# Altium schematic symbol library vitech_lib.SchLib: 33 symbols
Pins are listed as number, name and electrical type; pins without a type are passive.

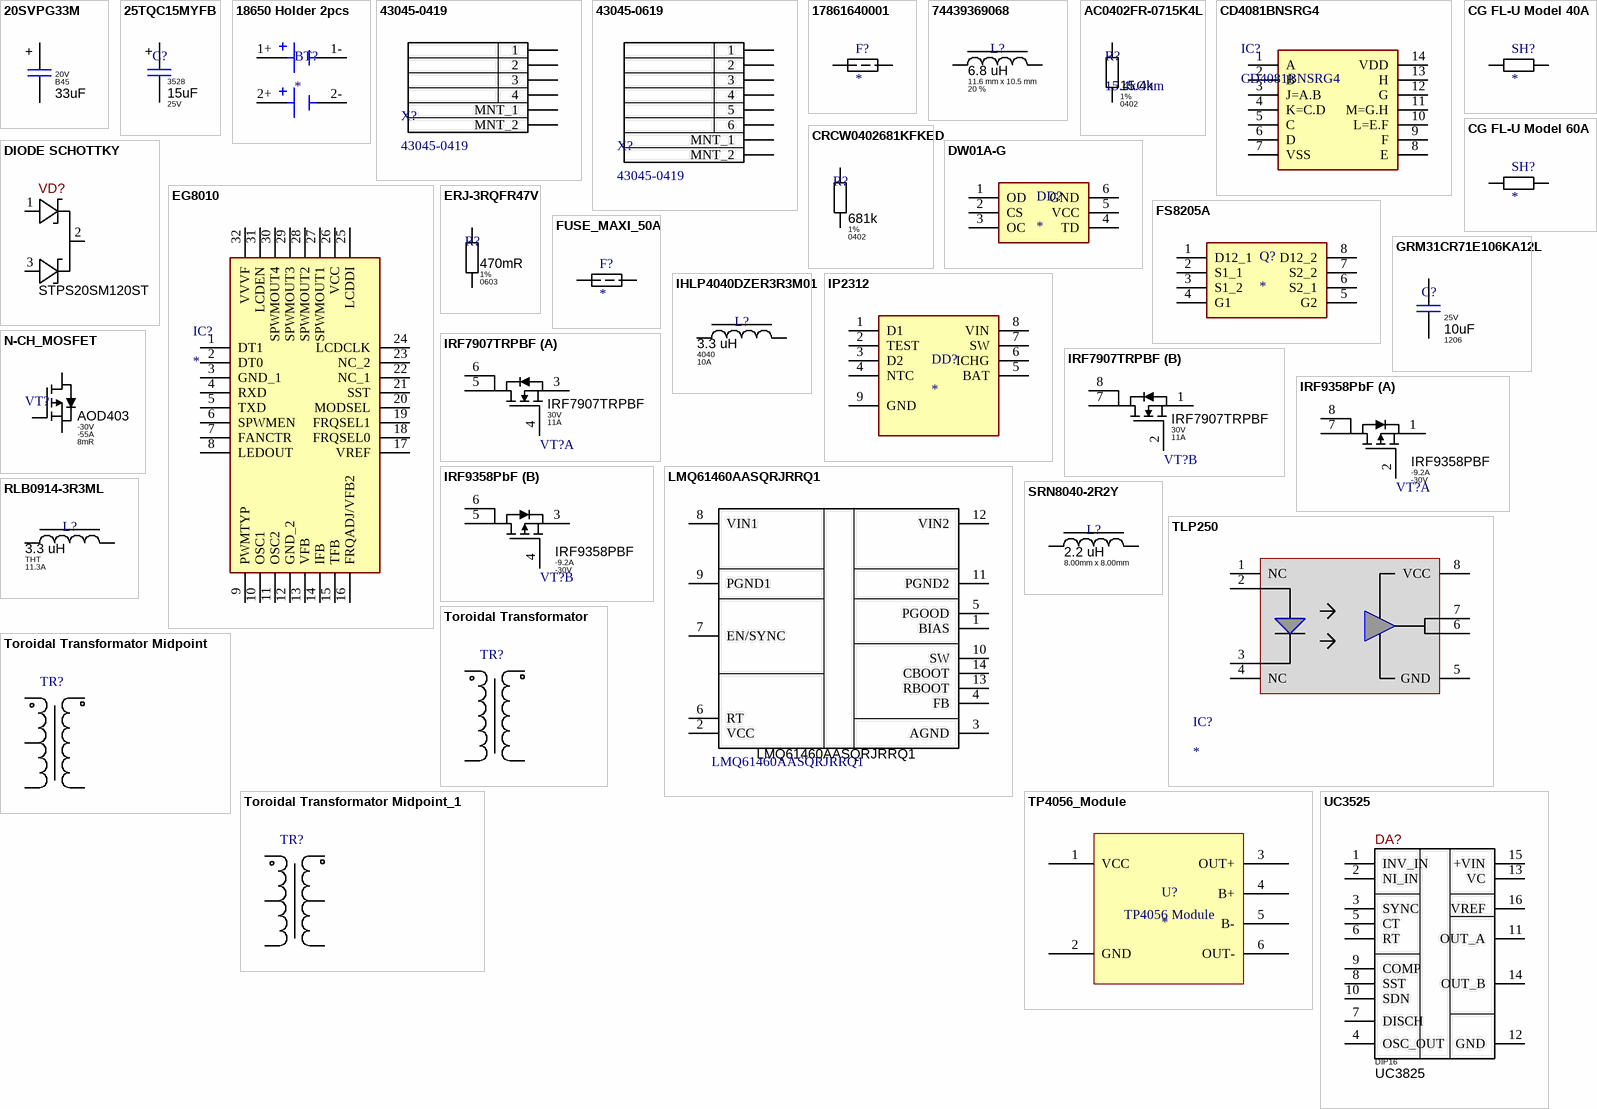
[diagram p0: symbols 20SVPG33M to UC3525]

## 20SVPG33M
designator C?, comment Package: B45  Voltage: 20V  (hidden comment: 33uF)
Aluminium Organic Polymer Capacitors 20volt 33uF 27mOhms 5x4.5mm OS-CON; Part Number: 20SVPG33M; Manufacturer: Panasonic; Tolerance: 20 %; ComponentLink1Description: Datasheet; ComponentLink1URL: https://industrial.panasonic.com/cdbs/www-data/pdf/AAB8000/AAB8000C175.pdf; Component Type: SMD; Value: 33uF
footprint 20SVPG33M
pins: 1, 2
text: +

## 25TQC15MYFB
designator C?, comment Voltage: 25V  Package: 3528  (hidden comment: 15uF)
Cap Tant Solid 15uF 25V B2 CASE 20% (3.5 X 2.8 X 1.9mm) SMD 3528 0.1 Ohm 105 C Embossed T/R; Manufacturer: Panasonic; Part Number: 25TQC15MYFB; ESR: 0.1Ohm; ComponentLink1Description: Datasheet; ComponentLink1URL: https://industrial.panasonic.com/cdbs/www-data/pdf/AAA8000/AAA8000C62.pdf; Tolerance: ±20%; Component Type: SMD; Value: 15uF
footprint 25TQC15MYFB
pins: 1, 2
text: +

## 18650 Holder 2pcs
designator BT?
Battery Holder (Open) 18650 2 Cell PC Pin; MP: BK-18650-PC4; Price: None; Value: *; Package: None; Availability: Unavailable
footprint BAT_BK-18650-PC4 (Footprint not found)
pins: 1+, 1-, 2+, 2-

## 43045-0419
designator X?
Micro-Fit 3.0 Vertical Header, 3.00mm Pitch, Dual Row, 4 Circuits, with Solder Tab, Gold, Glow-Wire Capable, Black, Tape and Reel; Manufacturer: Molex; ComponentLink1Description: Datasheet; ComponentLink1URL: https://www.molex.com/en-us/products/part-detail/430450419?display=pdf; Part Number: 43045-0419; Component Type: SMD
footprint 43045-0419
pins: 1, 2, 3, 4, 5 MNT_1, 6 MNT_2

## 43045-0619
designator X?, comment 43045-0419
Micro-Fit 3.0 Vertical Header, 3.00mm Pitch, Dual Row, 6 Circuits, with Solder Tab, Gold, Glow-Wire Capable, Black, Tape and Reel; Manufacturer: Molex; Part Number: 43045-0619; ComponentLink1Description: Datasheet; ComponentLink1URL: https://www.molex.com/en-us/products/part-detail/430450619?display=pdf; Component Type: SMD
footprint 43045-0619
pins: 1, 2, 3, 4, 5, 6, 7 MNT_1, 8 MNT_2

## 17861640001
designator F?
Fuse; Manufacturer_Name: LITTELFUSE; Manufacturer_Part_Number: 17861640001; Datasheet Link: https://www.littelfuse.com/media?resourcetype=2d-prints&itemid=dcb90cf3-0771-4ccd-8726-26101cf00574&filename=ol-178.6164.0000(c); Height: 17.5mm
footprint 17861640001
pins: 1, 2

## 74439369068
designator L?, comment value 6.8 uH  Tolerance: 20 %  Package: 11.6 mm x 10.5 mm  (hidden comment: 6.8uH)
Power Inductors - SMD WE-XHMI SMD 1090 6.8uH 10.5A 7.6mOhms AEC-Q200; Manufacturer: Wurth Elektronik; Part Number: 74439369068; Saturation Current: 21.5 A; Component Type: SMD
footprint 74439369068
pins: 1, 2

## AC0402FR-0715K4L
designator R?, comment 15.4kOhm  value 15.4k  Package: 0402  Tolerance: 1%
RES 15.4kΩ ±1% 0.063W 0402; Manufacturer: YAGEO; Part Number: AC0402FR-0715K4L; Voltage: 50V; Component Type: SMD
footprint AC0402FR-0715K4L (Footprint not found)
pins: 1, 2

## CD4081BNSRG4
designator IC?
Integrated Circuit; Manufacturer_Name: Texas Instruments; Datasheet Link: https://www.ti.com/lit/gpn/cd4081b; Height: 2mm; Manufacturer_Part_Number: CD4081BNSRG4; Mouser Part Number: 595-CD4081BNSRG4; Mouser Price/Stock: https://www.mouser.com/Search/Refine.aspx?Keyword=595-CD4081BNSRG4; Component Type: SMD
footprint SOIC127P780X200-14N
pins: 1 A, 2 B, 3 J=A.B, 4 K=C.D, 5 C, 6 D, 7 VSS, 8 E, 9 F, 10 L=E.F, 11 M=G.H, 12 G, 13 H, 14 VDD

## CG FL-U Model 40A
designator SH?
link: http://www.cnchog.com/products/40a-220a-ID167.html
footprint CG FL-U Model 40A (Footprint not found)
pins: 1 A, 2 B

## CG FL-U Model 60A
designator SH?
link: http://www.cnchog.com/products/40a-220a-ID167.html
footprint CG FL-U Model 60A (Footprint not found)
pins: 1, 2

## CRCW0402681KFKED
designator R?, comment value 681k  Package: 0402  Tolerance: 1%  (hidden comment: 681kOhm)
RES SMD 681K OHM 1% 1/16W 0402; Part Number: CRCW0402681KFKED; Manufacturer: Vishay Dale; Voltage: 50V; Datasheet: https://www.vishay.com/docs/20035/dcrcwe3.pdf; Component Type: SMD
footprint CRCW0402681KFKED
pins: 1, 2

## DIODE SCHOTTKY
designator VD?  Part Number: STPS20SM120ST  (hidden comment: *)
Diode Schottky Array 1 Pair Common Cathode, 120V 20A, TO-220; Manufacturer: STMicroelectronics; Marking: STPS20SM120; Component Status: Released; Standard Lead Time: 11 Weeks; Vf: 0.75V @ 10A; Replacement: NONE; Voltage: 120V; Part Type: Schottky; Component Type: PTH; Package: TO-220AB; Current: 20A; Temperature Range: -65°C ~ 150°C; ComponentLink1URL: https://www.st.com/resource/en/datasheet/stps20sm120s.pdf; Supplier 1: Digi-Key; Supplier Part Number 1: 497-15563-5-ND; Price: NONE; ComponentLink1Description: Datasheet
footprint TO220(H)
footprint TO220
footprint TO247 (3-Lead Plastic TO-247)
footprint TO247(H) (3-Lead Plastic TO-247)
pins: 1 Anode 1, 2 Cathode, 3 Anode 2

## DW01A-G
designator DD?
One Cell Lithium-ion/Polymer Battery Protection IC; Component Type: SMD
footprint DW01A-G
pins: 1 OD, 2 CS, 3 OC, 4 TD, 5 VCC, 6 GND

## EG8010
designator IC?
Integrated Circuit; Manufacturer_Name: Glenair; Manufacturer_Part_Number: EG8010; Datasheet Link: https://datasheetspdf.com/pdf-file/729849/EGMicro/EG8010/1; Height: 1.6mm
footprint QFP80P900X900X160-32N
pins: 1 DT1, 2 DT0, 3 GND_1, 4 RXD, 5 TXD, 6 SPWMEN, 7 FANCTR, 8 LEDOUT, 9 PWMTYP, 10 OSC1, 11 OSC2, 12 GND_2, 13 VFB, 14 IFB, 15 TFB, 16 FRQADJ/VFB2, 17 VREF, 18 FRQSEL0, 19 FRQSEL1, 20 MODSEL, 21 SST, 22 NC_1, 23 NC_2, 24 LCDCLK, 25 LCDDI, 26 VCC, 27 SPWMOUT1, 28 SPWMOUT2, 29 SPWMOUT3, 30 SPWMOUT4, 31 LCDEN, 32 VVVF

## ERJ-3RQFR47V
designator R?, comment value 470mR  Package: 0603  Tolerance: 1%  (hidden comment: 0.47R)
RES 0.47 OHM 1% 1/10W 0603; Manufacturer: Panasonic Electronic Components; Part Number: ERJ-3RQFR47V; Voltage: 50V; Component Type: SMD
footprint ERJ-3RQFR47V (Footprint not found)
pins: 1, 2

## FS8205A
designator Q?
Dual N-Channel Enahncement Mode Power MOSFET; Datasheet: https://www.ic-fortune.com/upload/Download/FS8205A-DS-12_EN.pdf; ComponentLink1Description: Data; ComponentLink1URL: https://www.ic-fortune.com/upload/Download/FS8205A-DS-12_EN.pdf
footprint FS8205A (Dual N-Channel Enahncement Mode Power MOSFET)
pins: 1 D12_1, 2 S1_1, 3 S1_2, 4 G1, 5 G2, 6 S2_1, 7 S2_2, 8 D12_2

## FUSE_MAXI_50A
designator F?
Fuse; Manufacturer_Name: LITTELFUSE; Manufacturer_Part_Number: 17861640001; Datasheet Link: https://www.littelfuse.com/media?resourcetype=2d-prints&itemid=dcb90cf3-0771-4ccd-8726-26101cf00574&filename=ol-178.6164.0000(c); Height: 17.5mm
footprint FUSE_MAXI_50A
pins: 1, 2

## GRM31CR71E106KA12L
designator C?, comment Package: 1206  Voltage: 25V  (hidden comment: 10uF)
Multilayer Ceramic Capacitors MLCC - SMD/SMT 10 uF 25 VDC 10% 1206 X7R; Manufacturer: Murata; Part Number: GRM31CR71E106KA12L; ComponentLink1Description: Datasheet; ComponentLink1URL: https://eu.mouser.com/datasheet/2/281/1/GRM31CR71E106KA12_01CA-1987921.pdf; Tolerance: 10 %; Component Type: SMD; Value: 10uF
footprint GRM31CR71E106KA12L
pins: 1, 2

## IHLP4040DZER3R3M01
designator L?, comment value 3.3 uH  Package: 4040  Current: 10A  (hidden comment: 3.3uH)
FIXED IND 3.3UH 10A 14.4MOHM SMD; Manufacturer: Vishay Dale; Part Number: IHLP4040DZER3R3M01; Saturation Current: 18.6А; Tolerance: ±20%; ComponentLink1Description: Datasheet; ComponentLink1URL: https://www.vishay.com/docs/34193/ihlp-4040dz-01.pdf
footprint IHLP4040DZER3R3M01
pins: 1, 2

## IP2312
designator DD?
Component Type: SMD
footprint IP2313 (ESOP-8L DC-DC Converters RoHS)
pins: 1 D1, 2 TEST, 3 D2, 4 NTC, 5 BAT, 6 ICHG, 7 SW, 8 VIN, 9 GND

## IRF7907TRPBF
designator VT?  Continuous Drain Current (ID): 11A  Drain to Source Voltage (Vdss): 30V  (hidden comment: IRF7907TRPBF)
MOSFET 2N-CH 30V 9.1A/11A 8SO; FET Type: 2 N-Channel; Max Power Dissipation: 2W; Input Capacitance: 850pF; Rds On Max: 16.4mR; Gate to Source Voltage (Vgs): 20V; Width: 0.157inch; Max Dual Supply Voltage: 30V; Lead Free: Lead Free; Length: 0.196inch; RoHS Compliant: Yes; Case/Package: SO; Packaging: Tape and Reel; Max Operating Temperature: 150°C; Halogen Free: Halogen Free; Mount: Surface Mount; Number of Pins: 8; Min Operating Temperature: -55°C; Height: 0.059inch; ComponentLink1Description: Datasheet; ComponentLink1URL: https://www.infineon.com/dgdl/irf7907pbf-1.pdf?fileId=5546d462533600a40153560ca1b41d3b; ComponentLink2Description: Imrad; ComponentLink2URL: https://imrad.com.ua/ua/irf7907pbf-0; Partnumber: IRF7907TRPBF
footprint FP-PG-DSO-8-IPC_B
part A pins: 3 S1, 4 G1, 5 D1, 6 D1
part B pins: 1 S2, 2 G2, 7 D22, 8 D2

## IRF9358PbF
designator VT?, comment Continuous Drain Current: -9.2A  Drain To Source Voltage: -30V  (hidden comment: IRF9358PBF)
MOSFET 2P-CH 30V 9.2A 8SOIC; Manufacturer: Infineon Technologies; Reverse Recovery Charge: 35nC; Gate Charge At Vgs: 19nC @ -4.5V; Max Forward Diode Voltage: -1.2V; Threshold Vgs Max: -2.4V; Turn Off Delay Time: 146ns; Threshold Vgs Min: -1.3V; Standoff Height: 0.1mm; Depletion Mode: False; Gate To Source Voltage: 20V; Input Capacitace At Vds: 1740pF @ -25V; Power Dissipation: 2W; Number Of P Channels: 2; Transconductance: 23S; Rthja Max: 62.5°C/W; Reverse Recovery Time: 55ns; Max Junction Temp: +150°C; Pulse Drain Current: -73A; Drain To Source Resistance: 19mΩ; Turn On Delay Time: 5.7ns; Mouser Description: Dual P-Channel 30 V 16.3 mOhm 19 nC HEXFET® Power Mosfet - SOIC-8; Footprint Url: https://www.infineon.com/dgdl/po-so8.pdf?fileId=5546d462580663ef0158068a1275014d; Temperature: -55°C to +150°C; Height: 1.75mm; Device Class L2: Transistors; ComponentLink2Description: Datasheet; ComponentLink2URL: https://www.infineon.com/dgdl/irf9358pbf.pdf?fileId=5546d462533600a4015356114ffa1da5; Ipc Land Pattern Name: SOIC127P600X155-8; Drain To Source Breakdown Voltage: -30V; Device Class L1: Discrete Semiconductors; Number Of Channels: 2; Automotive: No; Temperature Range High: +150°C; Temperature Range Low: -55°C; Device Class L3: MOSFETs; Octopart: https://octopart.com/irf9358pbf-infineon-65873752; Lead Free: Yes; Package: PG-DSO-8; Category: Trans; RoHS: TRUE; Digikey Description: MOSFET 2P-CH 30V 9.2A 8SOIC; Manufacturer Part Number: IRF9358PBF
footprint FP-PG-DSO-8-IPC_B
part A pins: 1 S2, 2 G2, 7 D22, 8 D21
part B pins: 3 S1, 4 G1, 5 D12, 6 D11

## LMQ61460AASQRJRRQ1
designator D?
Automotive 3-V to 36-V, 6-A low EMI synchronous step-down quiet converter with integrated capacitors; Manufacturer: Texas Instruments; ComponentLink1Description: Datasheet; ComponentLink1URL: https://www.ti.com/lit/ds/symlink/lmq61460-q1.pdf?ts=1735116291350&ref_url=https%253A%252F%252Fwww.ti.com%252Fproduct%252FLMQ61460-Q1%252Fpart-details%252FLMQ61460AASQRJRRQ1; Component Type: SMD; Package: VQFN-HR (RJR) | 14; Part Number: LMQ61460AASQRJRRQ1
footprint LMQ61460AASQRJRRQ1
pins: 1 BIAS, 2 VCC (power), 3 AGND (power), 4 FB, 5 PGOOD (oc), 6 RT, 7 EN/SYNC, 8 VIN1 (power), 9 PGND1 (power), 10 SW, 11 PGND2 (power), 12 VIN2 (power), 13 RBOOT, 14 CBOOT

## N-CH_MOSFET
designator VT?, comment Rds: 8mR  Id: -55А  Vds: -30V  (hidden comment: AOD403)
P-MOSFET; полевой; -30В; -55А; 45Вт; TO252; Part Type: P-Channel; Component Type: SMD; Package: D-PAK; ComponentLink1Description: Datasheet; ComponentLink1URL: https://www.tme.eu/Document/dd9e9fcbccf7c5b1f5f9da06cbc5bf44/AOD403-DTE.pdf; ComponentLink2Description: imrad; ComponentLink2URL: https://imrad.com.ua/ua/aod403-7?srsltid=AfmBOoqbv76D2b_UWMskTCTCmXEIhcjdT6a5VOgt9k0M-VKdEIqWTw9d; Part Number: AOD403
footprint DPAK
footprint TO220(H)
footprint TO247 (3-Lead Plastic TO-247)
footprint TO247(H) (3-Lead Plastic TO-247)
pins: 1 G, 2 D, 3 S

## RLB0914-3R3ML
designator L?, comment value 3.3 uH  Package: THT  Current: 11.3A  (hidden comment: 3.3uH)
3.3 µH Unshielded Drum Core, Wirewound Inductor 3.6 A 27mOhm Max Radial, Vertical Cylinder; Manufacturer: Bourns Inc.; Part Number: RLB0914-3R3ML-ND; Tolerance: ±20%; ComponentLink1Description: Datasheet; ComponentLink1URL: https://www.vishay.com/docs/34193/ihlp-4040dz-01.pdf; Saturation Current: 11.3A
footprint IND_BOURNS_RLB0914
pins: 1, 2

## SRN8040-2R2Y
designator L?, comment value 2.2 uH  Package: 8.00mm x 8.00mm  (hidden comment: 2.2uH)
FIXED IND 2.2UH 6.3A 13 MOHM SMD; Manufacturer: Bourns Inc.; Part Number: SRN8040-2R2Y; Tolerance: ±30%; Saturation Current: 7.4A; Voltage: *; Component Type: SMD
footprint SRN8040-2R2Y
pins: 1, 2

## TLP250
designator IC?
Integrated Circuit; Manufacturer_Name: Toshiba; Manufacturer_Part_Number: TLP250(F); Datasheet Link: https://pdf.voron.ua/files/pdf/optopara/tlp250.pdf; Height: 4.85mm; Mouser Part Number: 757-TLP250(F); Mouser Price/Stock: https://www.mouser.co.uk/ProductDetail/Toshiba/TLP250F?qs=f0GatGUIxV2cDxQrFeprhQ%3D%3D; Arrow Part Number: TLP250(F); Arrow Price/Stock: https://www.arrow.com/en/products/tlp250-f/toshiba
footprint DIP762W60P254L966H485Q8N
pins: 1 NC, 2 A, 3 C, 4 NC, 5 GND, 6 VO_(OUTPUT), 7 VO, 8 VCC

## Toroidal Transformator
designator TR?, comment TR  (value not drawn)
Manufacturer: Handmade; Part Number: RLB0914-3R3ML-ND; Saturation Current: 11.3A; Tolerance: ±20%; ComponentLink1Description: Datasheet; ComponentLink1URL: https://www.vishay.com/docs/34193/ihlp-4040dz-01.pdf
footprint TR: R32.8/20.1/10.7 (L)
pins: 1, 2, 3, 4

## Toroidal Transformator Midpoint
designator TR?, comment TR  (value not drawn)
Manufacturer: Handmade; Part Number: RLB0914-3R3ML-ND; Saturation Current: 11.3A; Tolerance: ±20%; ComponentLink1Description: Datasheet; ComponentLink1URL: https://www.vishay.com/docs/34193/ihlp-4040dz-01.pdf
footprint TR: R32.8/20.1/10.7 (L) - MidPoint
pins: 1, 2, 3, 4, 5

## Toroidal Transformator Midpoint_1
designator TR?, comment TR  (value not drawn)
Manufacturer: Handmade; Part Number: RLB0914-3R3ML-ND; Saturation Current: 11.3A; Tolerance: ±20%; ComponentLink1Description: Datasheet; ComponentLink1URL: https://www.vishay.com/docs/34193/ihlp-4040dz-01.pdf
footprint TR: R32.8/20.1/10.7 (L) - MidPoint - 2
pins: 1, 2, 3, 4, 5, 6

## TP4056_Module
designator U?
Зарядний модуль на TP4056 Type-C
footprint TP4056_Mod
pins: 1 VCC, 2 GND, 3 OUT+, 4 B+, 5 B-, 6 OUT-
text: TP4056 Module

## UC3525
designator DA?  Package: DIP16  Part Number: UC3825  (hidden comment: UC3525)
Buck, Push-Pull Regulator Positive Output Step-Down, Step-Up/Step-Down DC-DC Controller IC 16-DIP/16-SOIC; Manufacturer: Texas; Standard Lead Time: 8 Weeks; Component Status: Released; Replacement: NONE; GUID_1C: 956a5446-e932-11eb-ab74-0050569f2651; Part Type: IC REG CTRLR BCK/PUSH-PULL; Component Type: SMD; Temperature Range: -40°C ~ 125°C; ComponentLink1URL: https://assets.nexperia.com/documents/data-sheet/74HC_HCT4051.pdf; Supplier 1: Digi-Key; Supplier Part Number 1: 1727-6049-2-ND; Price: 0.11383574; ComponentLink1Description: Datasheet
footprint DIP16
footprint SOIC-16
pins: 1 INV_IN, 2 NI_IN, 3 SYNC, 4 OSC_OUT, 5 CT, 6 RT, 7 DISCH, 8 SST, 9 COMP, 10 SDN, 11 OUT_A, 12 GND, 13 VC, 14 OUT_B, 15 +VIN, 16 VREF